# EAGLE library part NMSD200B01-7 (library SamacSys_Parts)
MOSFET ARRAY N-MOSFET AND SCHTKY DIO SOT-363 Source: Datasheet <https://www.diodes.com/assets/Datasheets/ds30911.pdf>
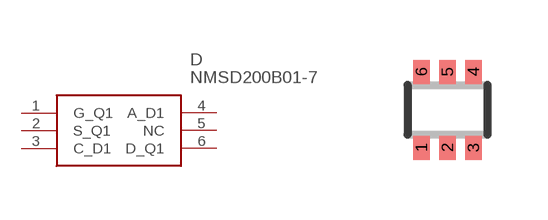
[diagram p2: symbol with the pads of SOT-363; footprint SOT-363]

Designator prefix D

## NMSD200B01-7 (DESCRIPTION: MOSFET ARRAY N-MOSFET AND SCHTKY DIO SOT-363; HEIGHT: mm; MANUFACTURER_NAME: Diodes Inc.; MANUFACTURER_PART_NUMBER: NMSD200B01-7)  [SOT-363]
1  G_Q1
2  S_Q1
3  C_D1
4  A_D1
5  NC  nc
6  D_Q1

## Footprint SOT-363 (pad centres in mm)
SOT-363
smd 0.42 x 0.6: 1 -0.65,-0.95; 2 0,-0.95; 3 0.65,-0.95; 4 0.65,0.95; 5 0,0.95; 6 -0.65,0.95